# Altium footprint library ADCMP393ARZ.PcbLib: 1 footprints
Each footprint in its own frame and in the unit in brackets; x right, y up, seen from the top. Pads: shape width x height; smd on the part's side, far side on the other; paste and mask are expansions set on the pad; w line width, h text height; cw(c..) or ccw(c..) is an arc to the next point about the centre after c.
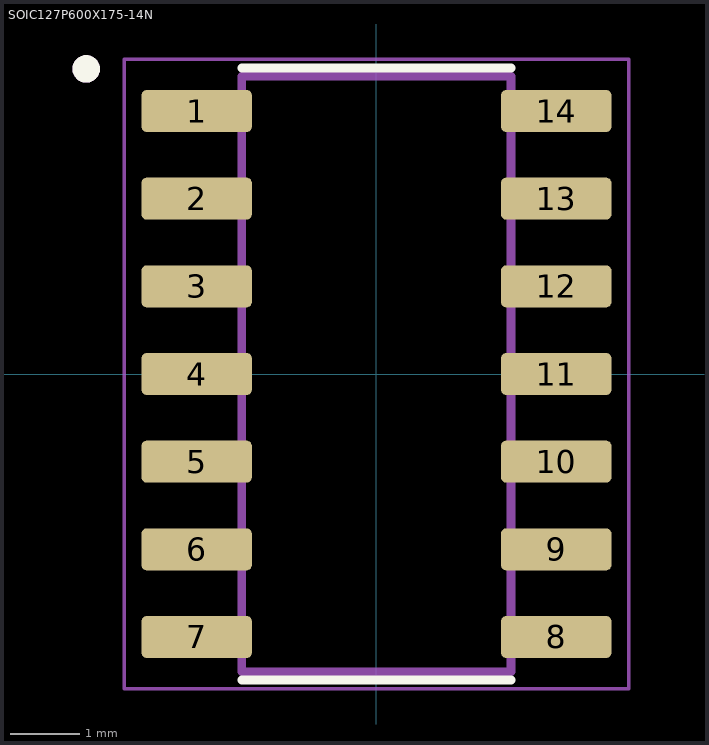
[diagram p0: the footprint, top view; thin cyan lines are the x and y axes]

## SOIC127P600X175-14N [mm]
pads (14):
  rrect25% 1.6x0.61 smd: 1(-2.605,3.81) 2(-2.605,2.54) 3(-2.605,1.27) 4(-2.605,0) 5(-2.605,-1.27) 6(-2.605,-2.54) 7(-2.605,-3.81) 8(2.605,-3.81) 9(2.605,-2.54) 10(2.605,-1.27) 11(2.605,0) 12(2.605,1.27) 13(2.605,2.54) 14(2.605,3.81)
Top Overlay:
  circle w0.2: c-4.205,4.42 r0.1
  lines w0.127: -1.95,-4.435 1.95,-4.435 ; -1.95,4.435 1.95,4.435
Mechanical 13:
  circle w0.2: c-4.205,4.42 r0.1
  lines w0.127: -1.95,-4.313 -1.95,4.313 1.95,4.313 1.95,-4.313 -1.95,-4.313
Mechanical 15:
  lines w0.05: -3.655,-4.563 -3.655,4.563 3.655,4.563 3.655,-4.563 -3.655,-4.563